# EAGLE library part 70553-06 (library con-molex-c-grid)
C-Grid SL
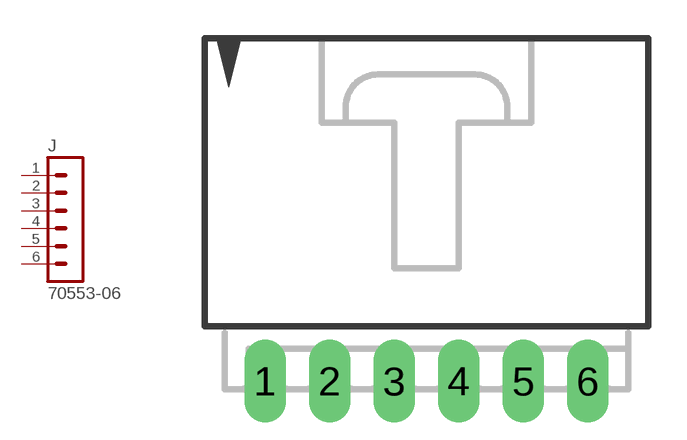
[diagram p20: symbol with the pads of 70553-06; footprint 70553-06]

Designator prefix J

## 70553-06  [70553-06]
1  1  pas
2  2  pas
3  3  pas
4  4  pas
5  5  pas
6  6  pas

## Footprint 70553-06 (pad centres in mm)
C-Grid SL right angle
drill 1.092 long: 1 -6.35,-7.62; 2 -3.81,-7.62; 3 -1.27,-7.62; 4 1.27,-7.62; 5 3.81,-7.62; 6 6.35,-7.62